# EAGLE library part DRV8313PWPR (library DRV8313PWPR)
Check availability <https://pricing.snapeda.com/parts/DRV8313PWPR/Texas%20Instruments/view-part?ref=eda>
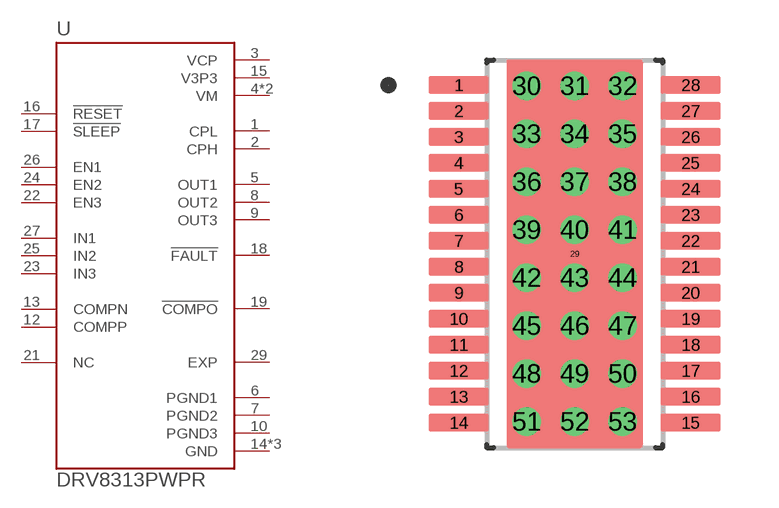
[diagram p0: symbol with the pads of SOP65P640X120-29N; footprint SOP65P640X120-29N]

Designator prefix U

## DRV8313PWPR (Availability: In Stock; Check_prices: https://www.snapeda.com/parts/DRV8313PWPR/Texas+Instruments/view-part/?ref=eda; Description: 65-V max 3-A peak 3-phase motor driver with integrated FETs; MF: Texas Instruments; MP: DRV8313PWPR; Package: HTSSOP-28 Texas Instruments; Price: None; SnapEDA_Link: https://www.snapeda.com/parts/DRV8313PWPR/Texas+Instruments/view-part/?ref=snap)  [SOP65P640X120-29N]
1  CPL  pwr
2  CPH  pwr
3  VCP  pwr
4  VM  pwr
5  OUT1  out
6  PGND1  pwr
7  PGND2  pwr
8  OUT2  out
9  OUT3  out
10  PGND3  pwr
11  VM  pwr
12  COMPP  in
13  COMPN  in
14  GND  pwr
15  V3P3  pwr
16  !RESET  in
17  !SLEEP  in
18  !FAULT  out
19  !COMPO  out
20  GND  pwr
21  NC  nc
22  EN3  in
23  IN3  in
24  EN2  in
25  IN2  in
26  EN1  in
27  IN1  in
28  GND  pwr
29  EXP  pwr

## Footprint SOP65P640X120-29N (pad centres in mm)
smd 1.5 x 0.45: 1 -2.9,4.225; 2 -2.9,3.575; 3 -2.9,2.925; 4 -2.9,2.275; 5 -2.9,1.625; 6 -2.9,0.975; 7 -2.9,0.325; 8 -2.9,-0.325; 9 -2.9,-0.975; 10 -2.9,-1.625; 11 -2.9,-2.275; 12 -2.9,-2.925; 13 -2.9,-3.575; 14 -2.9,-4.225; 15 2.9,-4.225; 16 2.9,-3.575; 17 2.9,-2.925; 18 2.9,-2.275; 19 2.9,-1.625; 20 2.9,-0.975; 21 2.9,-0.325; 22 2.9,0.325; 23 2.9,0.975; 24 2.9,1.625; 25 2.9,2.275; 26 2.9,2.925; 27 2.9,3.575; 28 2.9,4.225
smd 0.1 x 0.1: 29 0,0
drill 0.2 pad 0.3: 30 -1.2,4.2; 31 0,4.2; 32 1.2,4.2; 33 -1.2,3; 34 0,3; 35 1.2,3; 36 -1.2,1.8; 37 0,1.8; 38 1.2,1.8; 39 -1.2,0.6; 40 0,0.6; 41 1.2,0.6; 42 -1.2,-0.6; 43 0,-0.6; 44 1.2,-0.6; 45 -1.2,-1.8; 46 0,-1.8; 47 1.2,-1.8; 48 -1.2,-3; 49 0,-3; 50 1.2,-3; 51 -1.2,-4.2; 52 0,-4.2; 53 1.2,-4.2